# EAGLE library part MCP73833 (library SparkFun-IC-Power)
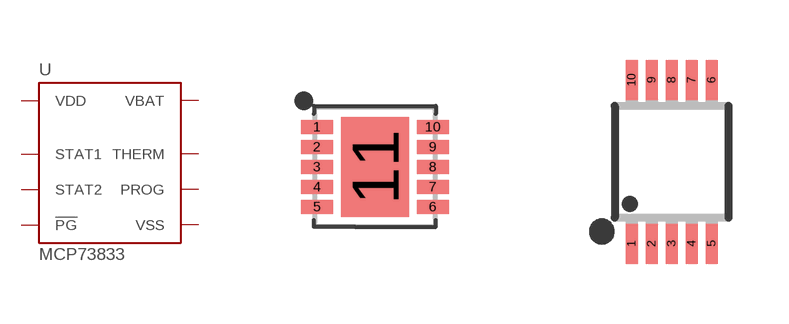
[diagram p22: symbol with the pads of DFN-10; footprints DFN-10, MSOP10]

Designator prefix U

## MCP73833QFN (PROD_ID: IC-14369; VALUE: MCP73833)  [DFN-10]
1  VDD
2  VDD
3  STAT1
4  STAT2
5  VSS
6  PROG
7  !PG
8  THERM
9  VBAT
10  VBAT
11  VSS

## MCP73833MSOP (PROD_ID: IC-19890)  [MSOP10]
1  VDD
2  VDD
3  STAT1
4  STAT2
5  VSS
6  PROG
7  !PG
8  THERM
9  VBAT
10  VBAT

## Footprint DFN-10 (pad centres in mm)
smd 0.8 x 0.35: 1 -1.45,1; 2 -1.45,0.5; 3 -1.45,0; 4 -1.45,-0.5; 5 -1.45,-1; 6 1.45,-1; 7 1.45,-0.5; 8 1.45,0; 9 1.45,0.5; 10 1.45,1
smd 1.7 x 2.5: 11 0,0

## Footprint MSOP10 (pad centres in mm)
10 Lead Platic MSOP Source: http://www.linear.com .. LT1996
smd 0.3 x 1: 1 -1,-2.05; 2 -0.5,-2.05; 3 0,-2.05; 4 0.5,-2.05; 5 1,-2.05; 6 1,2.05; 7 0.5,2.05; 8 0,2.05; 9 -0.5,2.05; 10 -1,2.05